# Altium footprint library GB042-10P-H10-E3000.PcbLib: 1 footprints
Each footprint in its own frame and in the unit in brackets; x right, y up, seen from the top. Pads: shape width x height; smd on the part's side, far side on the other; paste and mask are expansions set on the pad; w line width, h text height; cw(c..) or ccw(c..) is an arc to the next point about the centre after c.
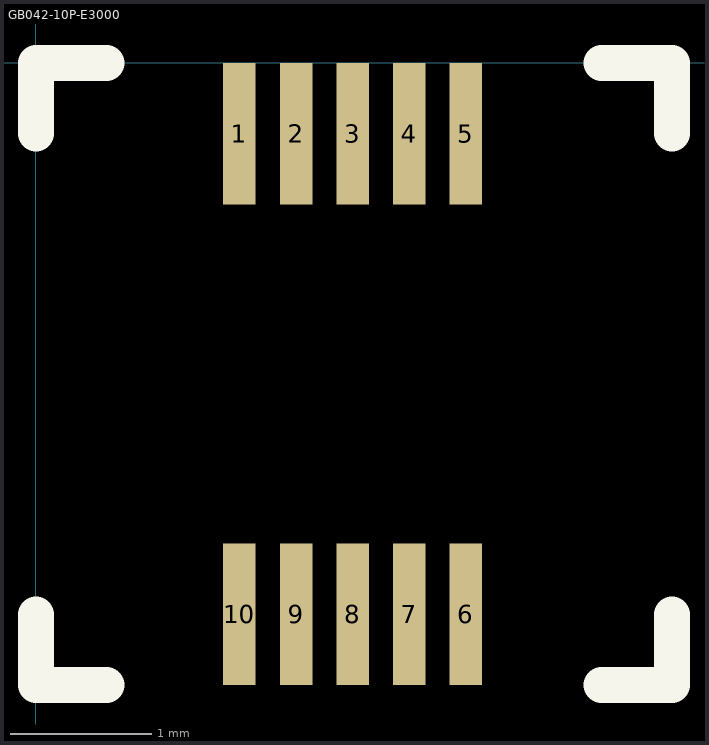
[diagram p0: the footprint, top view; thin cyan lines are the x and y axes]

## GB042-10P-E3000 [mm]
pads (10):
  rect 0.23x1 smd: 1(1.44,-0.5) 2(1.84,-0.5) 3(2.24,-0.5) 4(2.64,-0.5) 5(3.04,-0.5) 6(3.04,-3.9) 7(2.64,-3.9) 8(2.24,-3.9) 9(1.84,-3.9) 10(1.44,-3.9)
Top Overlay:
  lines w0.254: 0,-3.9 0,-4.4 0.5,-4.4 ; 0,-0.5 0,0 0.5,0 ; 4,-4.4 4.5,-4.4 4.5,-3.9 ; 4,0 4.5,0 4.5,-0.5